# EAGLE library part P_AVR_V (library HWProgUSB_DIP)
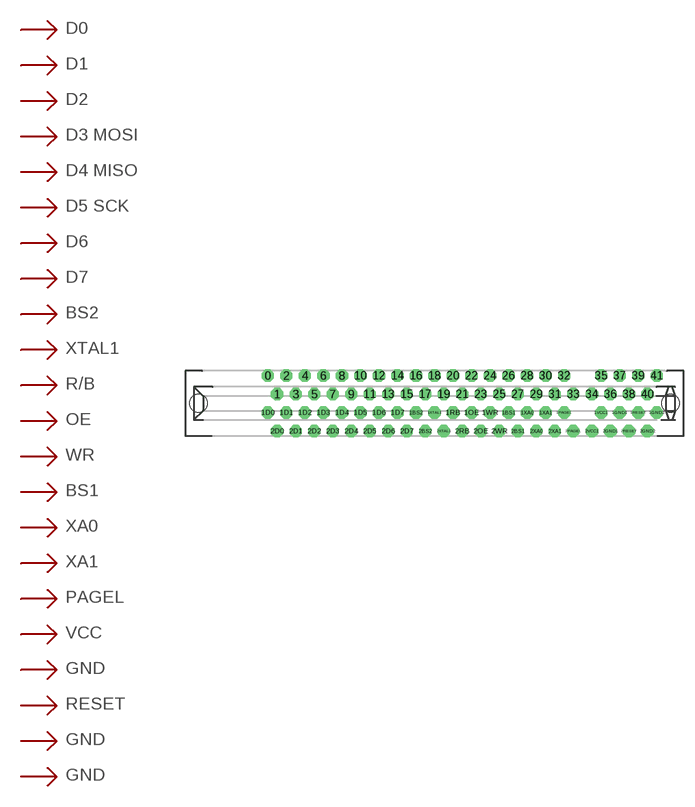
[diagram p1: symbol with the pads of CON-PCI; footprint CON-PCI]

Designator prefix -

## P_AVR_V  [CON-PCI]
0  GND
1  GND
1BS1  BS1
1BS2  BS2
1D0  D0
1D1  D1
1D2  D2
1D3  D3
1D4  D4
1D5  D5
1D6  D6
1D7  D7
1GND1  GND2
1GND2  LGND
1OE  OE
1PAGEL  PAGEL
1RB  RB
1RESET  RESET
1VCC1  VCC
1WR  WR
1XA0  XA0
1XA1  XA1
1XTAL1  XTAL1
2  GND
2BS1  BS1
2BS2  BS2
2D0  D0
2D1  D1
2D2  D2
2D3  D3
2D4  D4
2D5  D5
2D6  D6
2D7  D7
2GND1  GND2
2GND2  LGND
2OE  OE
2PAGEL  PAGEL
2RB  RB
2RESET  RESET
2VCC1  VCC
2WR  WR
2XA0  XA0
2XA1  XA1
2XTAL1  XTAL1
3  GND
4  GND
5  GND
6  GND
7  GND
8  GND
9  GND
10  GND
11  GND
12  GND
13  GND
14  GND
15  GND
16  GND
17  GND
18  GND
19  GND
20  GND
21  GND
22  GND
23  GND
24  GND
25  GND
26  GND
27  GND
28  GND
29  GND
30  GND
31  GND
32  GND
33  GND
34  GND
35  GND
36  GND
37  GND
38  GND
39  GND
40  GND
41  GND

## Footprint CON-PCI (pad centres in mm)
PCI SLOT
drill 1.016 pad 1.676 octagon: 0 -31.115,3.81; 1 -29.845,1.27; 1BS1 1.905,-1.27; 1BS2 -10.795,-1.27; 1D0 -31.115,-1.27; 1D1 -28.575,-1.27; 1D2 -26.035,-1.27; 1D3 -23.495,-1.27; 1D4 -20.955,-1.27; 1D5 -18.415,-1.27; 1D6 -15.875,-1.27; 1D7 -13.335,-1.27; 1GND1 17.145,-1.27; 1GND2 22.225,-1.27; 1OE -3.175,-1.27; 1PAGEL 9.525,-1.27; 1RB -5.715,-1.27; 1RESET 19.685,-1.27; 1VCC1 14.605,-1.27; 1WR -0.635,-1.27; 1XA0 4.445,-1.27; 1XA1 6.985,-1.27; 1XTAL1 -8.255,-1.27; 2 -28.575,3.81; 2BS1 3.175,-3.81; 2BS2 -9.525,-3.81; 2D0 -29.845,-3.81; 2D1 -27.305,-3.81; 2D2 -24.765,-3.81; 2D3 -22.225,-3.81; 2D4 -19.685,-3.81; 2D5 -17.145,-3.81; 2D6 -14.605,-3.81; 2D7 -12.065,-3.81; 2GND1 15.875,-3.81; 2GND2 20.955,-3.81; 2OE -1.905,-3.81; 2PAGEL 10.795,-3.81; 2RB -4.445,-3.81; 2RESET 18.415,-3.81; 2VCC1 13.335,-3.81; 2WR 0.635,-3.81; 2XA0 5.715,-3.81; 2XA1 8.255,-3.81; 2XTAL1 -6.985,-3.81; 3 -27.305,1.27; 4 -26.035,3.81; 5 -24.765,1.27; 6 -23.495,3.81; 7 -22.225,1.27; 8 -20.955,3.81; 9 -19.685,1.27; 10 -18.415,3.81; 11 -17.145,1.27; 12 -15.875,3.81; 13 -14.605,1.27; 14 -13.335,3.81; 15 -12.065,1.27; 16 -10.795,3.81; 17 -9.525,1.27; 18 -8.255,3.81; 19 -6.985,1.27; 20 -5.715,3.81; 21 -4.445,1.27; 22 -3.175,3.81; 23 -1.905,1.27; 24 -0.635,3.81; 25 0.635,1.27; 26 1.905,3.81; 27 3.175,1.27; 28 4.445,3.81; 29 5.715,1.27; 30 6.985,3.81; 31 8.255,1.27; 32 9.525,3.81; 33 10.795,1.27; 34 13.335,1.27; 35 14.605,3.81; 36 15.875,1.27; 37 17.145,3.81; 38 18.415,1.27; 39 19.685,3.81; 40 20.955,1.27; 41 22.225,3.81
hole 2.438 at 24.13,0
hole 2.438 at -40.64,0